# Altium schematic symbol library TR_NPN.Schlib: 2 symbols
Pins are listed as number, name and electrical type; pins without a type are passive.

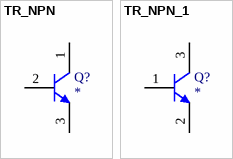
[diagram p0: symbols TR_NPN to TR_NPN_1]

## TR_NPN
designator Q?
Amplifier Transistor NPN Silicon
pins: 1 C, 2 B, 3 E

## TR_NPN_1
designator Q?
Amplifier Transistor NPN Silicon
pins: 1 C, 2 B, 3 E